# Altium footprint library SI570.PcbLib: 1 footprints
Each footprint in its own frame and in the unit in brackets; x right, y up, seen from the top. Pads: shape width x height; smd on the part's side, far side on the other; paste and mask are expansions set on the pad; w line width, h text height; cw(c..) or ccw(c..) is an arc to the next point about the centre after c.
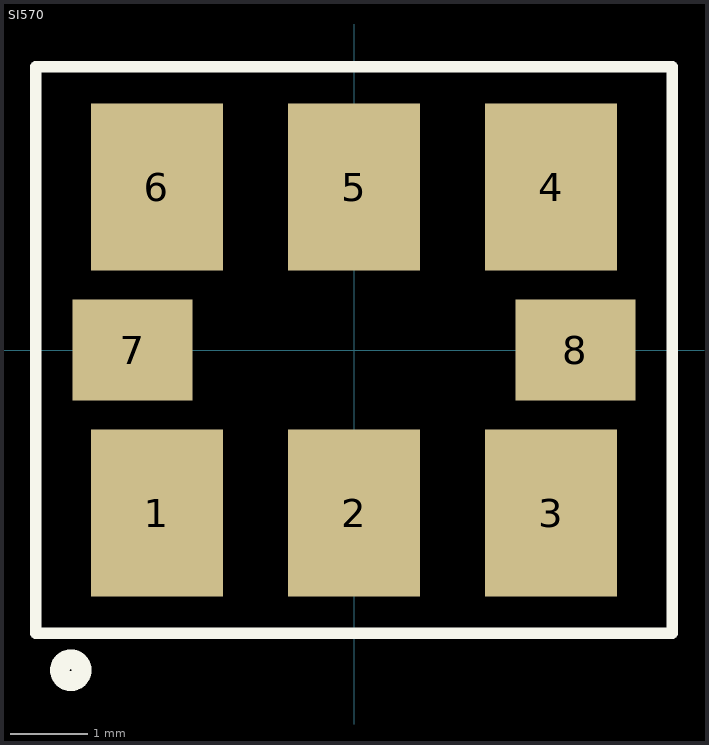
[diagram p0: the footprint, top view; thin cyan lines are the x and y axes]

## SI570 [mm] "I2C Programmable VCO 7x5mm 8pin"
height 1.8
pads (8):
  rect 1.7x2.15 smd: 1(-2.54,-2.1) 2(0,-2.1) 3(2.54,-2.1) 4(2.54,2.1) 5(0,2.1) 6(-2.54,2.1)
  rect 1.545x1.3 smd: 7(-2.852,0) 8(2.852,0)
Top Overlay:
  circle w0.254: c-3.65,-4.125 r0.141
  lines w0.15: -4.1,-3.65 -4.1,3.65 4.1,3.65 4.1,-3.65 -4.1,-3.65
3D body "SI570.step": height 1.7, standoff 0, extent -3.5,-2.5 3.5,2.5